# Altium footprint library R0805 - SEI.PcbLib: 1 footprints
Each footprint in its own frame and in the unit in brackets; x right, y up, seen from the top. Pads: shape width x height; smd on the part's side, far side on the other; paste and mask are expansions set on the pad; w line width, h text height; cw(c..) or ccw(c..) is an arc to the next point about the centre after c.
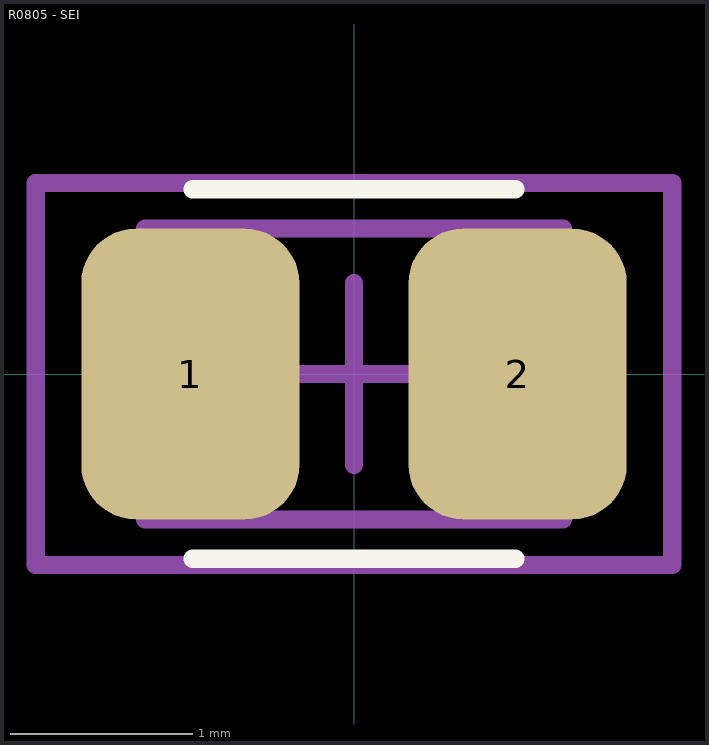
[diagram p0: the footprint, top view; thin cyan lines are the x and y axes]

## R0805 - SEI [mm] "Chip Resistor, 2-Leads, Body 2,05x1,30mm, IPC Medium Density"
height 0.55
pads (2):
  rrect50% 1.2x1.6 smd: 1(-0.9,0) 2(0.9,0)
Top Overlay:
  lines w0.1: -0.889,-1.016 0.889,-1.016 ; -0.889,1.016 0.889,1.016
Mechanical 13:
  lines w0.1: -1.15,-0.8 -1.15,0.8 1.15,0.8 1.15,-0.8 -1.15,-0.8
Mechanical 15:
  lines w0.1: -0.5,0 0.5,0 ; 0,-0.5 0,0.5 ; -1.75,-1.05 -1.75,1.05 1.75,1.05 1.75,-1.05 -1.75,-1.05
Top Designator:
  text ".Designator" at -1.004,-0.112 h0.25
3D body: height 0.55, standoff 0, extent -0.75,-0.8 0.75,0.8
3D body: height 0.55, standoff 0, extent -1.15,-0.8 -0.75,0.8
3D body: height 0.55, standoff 0, extent 0.75,-0.8 1.15,0.8